# EAGLE library part ARDUINO-TEENSY++ (library CMU-ArtFab)
Teensy ++ Original Design by Mark Gross Modified Design by Tamir Emran Licensed Under Creative Commons Attribution-ShareAlike 3.0 Unported (CC BY-SA 3.0)
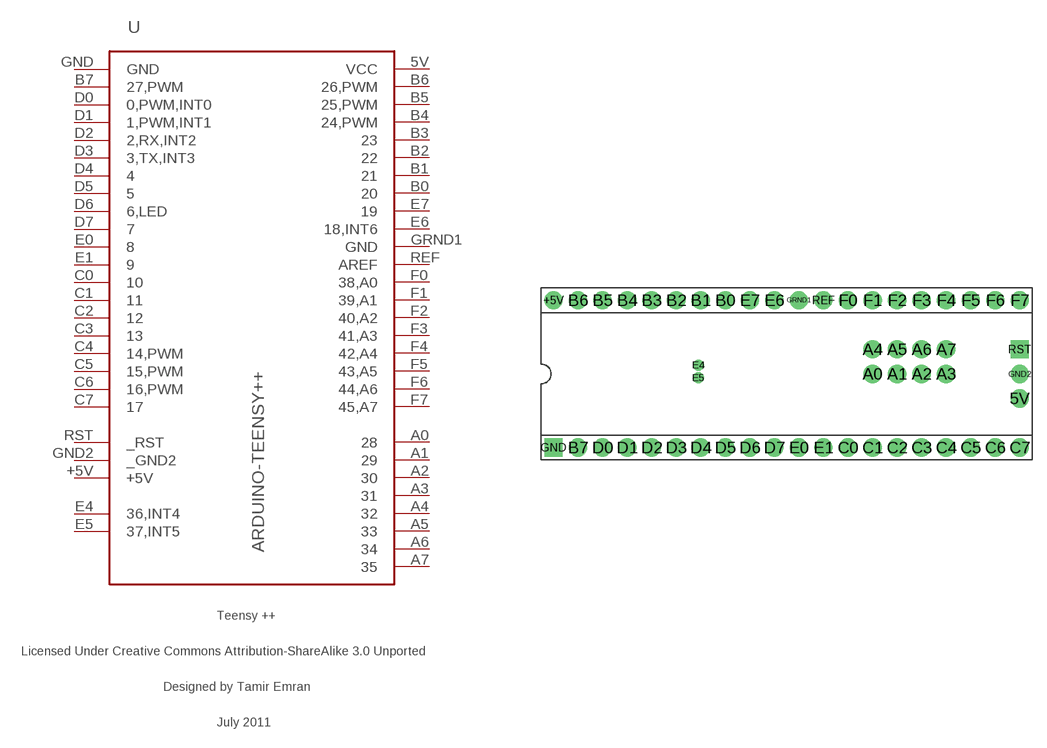
[diagram p8: symbol with the pads of TEENSY++; footprint TEENSY++]

Designator prefix -

## ARDUINO-TEENSY++  [TEENSY++]
5V  VCC  pwr
+5V  +5V  pwr
A0  28
A1  29
A2  30
A3  31
A4  32
A5  33
A6  34
A7  35
B0  20
B1  21
B2  22
B3  23
B4  24,PWM
B5  25,PWM
B6  26,PWM
B7  27,PWM
C0  10
C1  11
C2  12
C3  13
C4  14,PWM
C5  15,PWM
C6  16,PWM
C7  17
D0  0,PWM,INT0
D1  1,PWM,INT1
D2  2,RX,INT2
D3  3,TX,INT3
D4  4
D5  5
D6  6,LED
D7  7
E0  8
E1  9
E4  36,INT4
E5  37,INT5
E6  18,INT6
E7  19
F0  38,A0
F1  39,A1
F2  40,A2
F3  41,A3
F4  42,A4
F5  43,A5
F6  44,A6
F7  45,A7
GND  GND  pwr
GND2  _GND2  pwr
GRND1  GND  pwr
REF  AREF  in
RST  _RST  in

## Footprint TEENSY++ (pad centres in mm)
teensy ++
drill 1.016 pad 1.88: 5V 24.13,-2.54; +5V -24.13,7.62; A0 8.89,0; A1 11.43,0; A2 13.97,0; A3 16.51,0; A4 8.89,2.54; A5 11.43,2.54; A6 13.97,2.54; A7 16.51,2.54; B0 -6.35,7.62; B1 -8.89,7.62; B2 -11.43,7.62; B3 -13.97,7.62; B4 -16.51,7.62; B5 -19.05,7.62; B6 -21.59,7.62; B7 -21.59,-7.62; C0 6.35,-7.62; C1 8.89,-7.62; C2 11.43,-7.62; C3 13.97,-7.62; C4 16.51,-7.62; C5 19.05,-7.62; C6 21.59,-7.62; C7 24.13,-7.62; D0 -19.05,-7.62; D1 -16.51,-7.62; D2 -13.97,-7.62; D3 -11.43,-7.62; D4 -8.89,-7.62; D5 -6.35,-7.62; D6 -3.81,-7.62; D7 -1.27,-7.62; E0 1.27,-7.62; E1 3.81,-7.62; E6 -1.27,7.62; E7 -3.81,7.62; F0 6.35,7.62; F1 8.89,7.62; F2 11.43,7.62; F3 13.97,7.62; F4 16.51,7.62; F5 19.05,7.62; F6 21.59,7.62; F7 24.13,7.62; GND2 24.13,0; GRND1 1.27,7.62; REF 3.81,7.62
drill 0.635 pad 1.067: E4 -9.144,0.914; E5 -9.144,-0.406
drill 1.016 pad 1.88 square: GND -24.13,-7.62; RST 24.13,2.54